# Altium schematic symbol library Resistor_array_0603x4.Schlib: 1 symbol
Pins are listed as number, name and electrical type; pins without a type are passive.

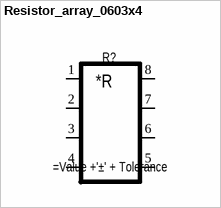
[diagram p0: symbol Resistor_array_0603x4]

## Resistor_array_0603x4
designator R?
pins: 1, 2, 3, 4, 5, 6, 7, 8
text: *R